# Altium schematic symbol library Standard.SchLib: 21 symbols
Pins are listed as number, name and electrical type; pins without a type are passive.

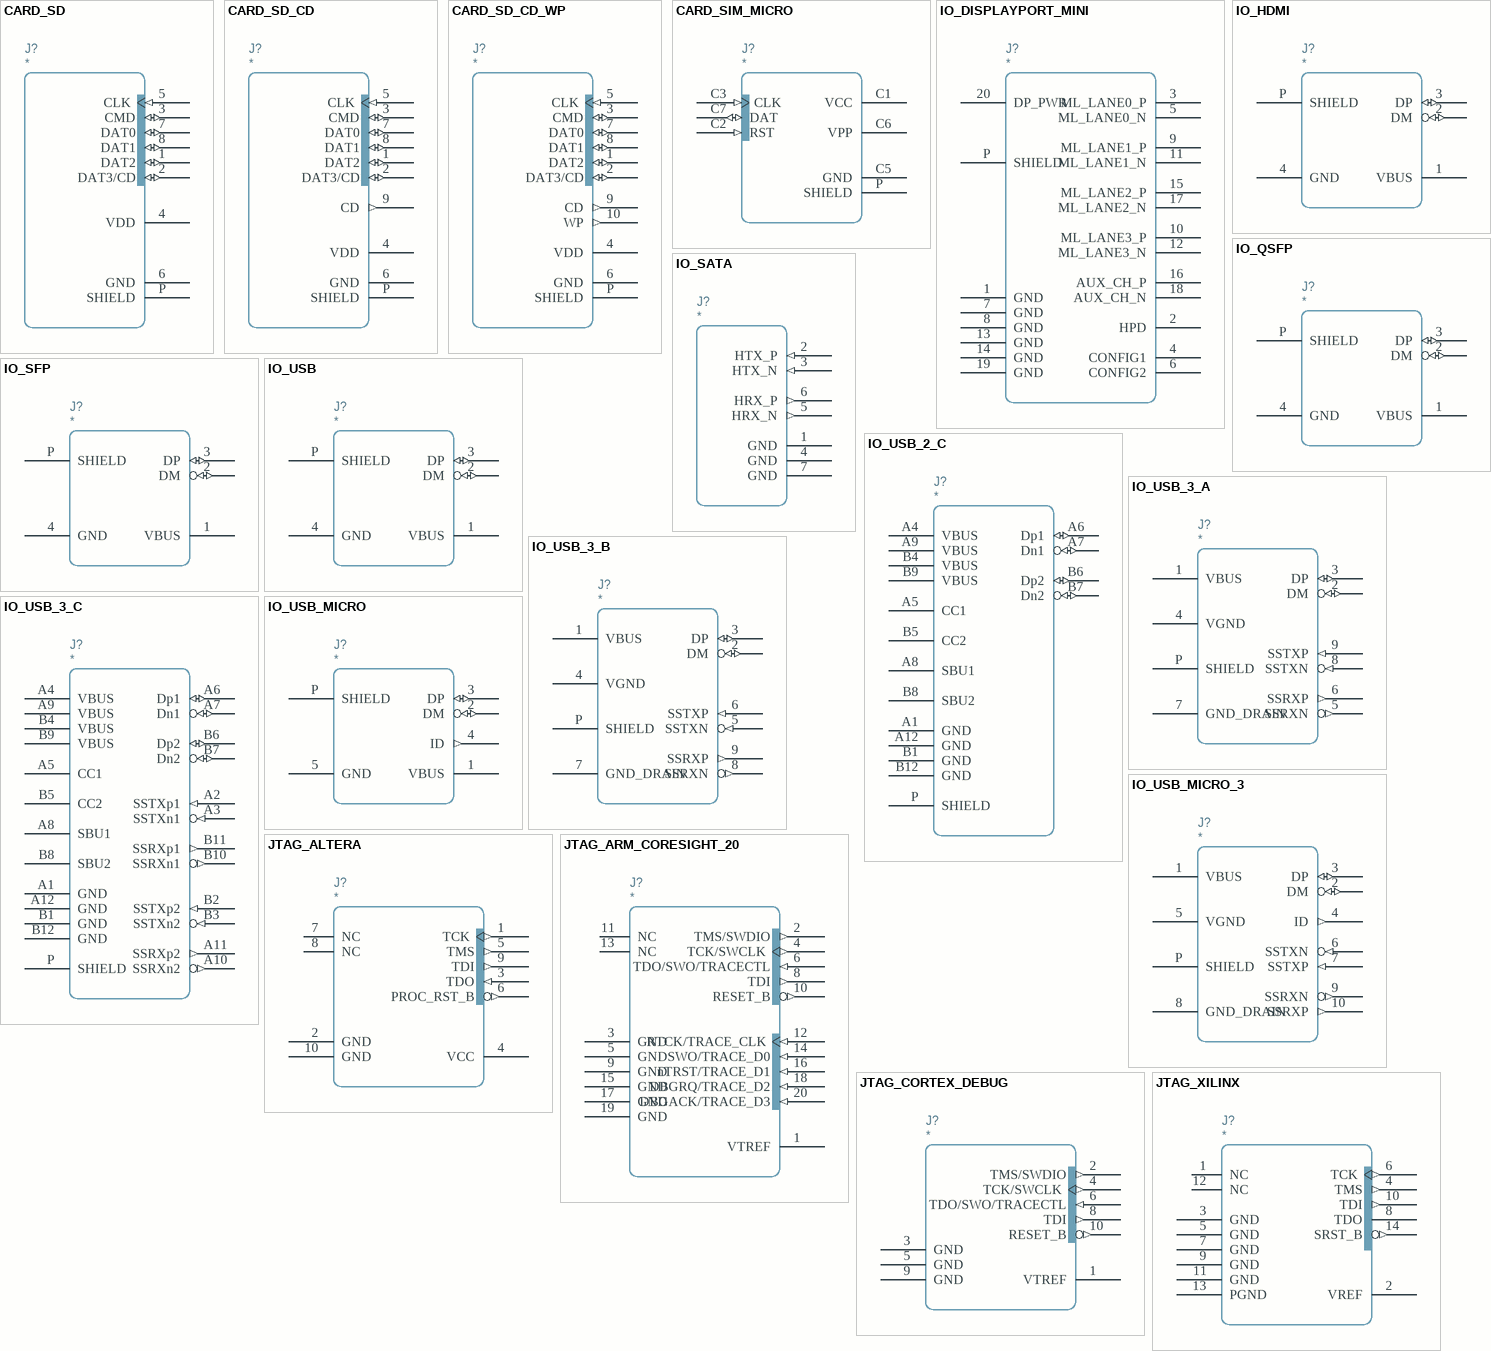
[diagram p0: symbols CARD_SD to JTAG_XILINX]

## CARD_SD
designator J?
pins: 1 DAT2 (io), 2 DAT3/CD (io), 3 CMD (io), 4 VDD, 5 CLK (in), 6 GND, 7 DAT0 (io), 8 DAT1 (io), P SHIELD

## CARD_SD_CD
designator J?
pins: 1 DAT2 (io), 2 DAT3/CD (io), 3 CMD (io), 4 VDD, 5 CLK (in), 6 GND, 7 DAT0 (io), 8 DAT1 (io), 9 CD (out), P SHIELD

## CARD_SD_CD_WP
designator J?
pins: 1 DAT2 (io), 2 DAT3/CD (io), 3 CMD (io), 4 VDD, 5 CLK (in), 6 GND, 7 DAT0 (io), 8 DAT1 (io), 9 CD (out), 10 WP (out), P SHIELD

## CARD_SIM_MICRO
designator J?
pins: C1 VCC, C2 RST (in), C3 CLK (in), C5 GND, C6 VPP, C7 DAT (io), P SHIELD

## IO_DISPLAYPORT_MINI
designator J?
pins: 1 GND, 2 HPD, 3 ML_LANE0_P, 4 CONFIG1, 5 ML_LANE0_N, 6 CONFIG2, 7 GND, 8 GND, 9 ML_LANE1_P, 10 ML_LANE3_P, 11 ML_LANE1_N, 12 ML_LANE3_N, 13 GND, 14 GND, 15 ML_LANE2_P, 16 AUX_CH_P, 17 ML_LANE2_N, 18 AUX_CH_N, 19 GND, 20 DP_PWR, P SHIELD

## IO_HDMI
designator J?
pins: 1 VBUS, 2 DM (io), 3 DP (io), 4 GND, P SHIELD

## IO_QSFP
designator J?
pins: 1 VBUS, 2 DM (io), 3 DP (io), 4 GND, P SHIELD

## IO_SATA
designator J?
pins: 1 GND, 2 HTX_P (in), 3 HTX_N (in), 4 GND, 5 HRX_N (out), 6 HRX_P (out), 7 GND

## IO_SFP
designator J?
pins: 1 VBUS, 2 DM (io), 3 DP (io), 4 GND, P SHIELD

## IO_USB
designator J?
pins: 1 VBUS, 2 DM (io), 3 DP (io), 4 GND, P SHIELD

## IO_USB_2_C
designator J?
pins: A1 GND, A4 VBUS, A5 CC1, A6 Dp1 (io), A7 Dn1 (io), A8 SBU1, A9 VBUS, A12 GND, B1 GND, B4 VBUS, B5 CC2, B6 Dp2 (io), B7 Dn2 (io), B8 SBU2, B9 VBUS, B12 GND, P SHIELD

## IO_USB_3_A
designator J?
pins: 1 VBUS, 2 DM (io), 3 DP (io), 4 VGND, 5 SSRXN (out), 6 SSRXP (out), 7 GND_DRAIN, 8 SSTXN (in), 9 SSTXP (in), P SHIELD

## IO_USB_3_B
designator J?
pins: 1 VBUS, 2 DM (io), 3 DP (io), 4 VGND, 5 SSTXN (in), 6 SSTXP (in), 7 GND_DRAIN, 8 SSRXN (out), 9 SSRXP (out), P SHIELD

## IO_USB_3_C
designator J?
pins: A1 GND, A2 SSTXp1 (in), A3 SSTXn1 (in), A4 VBUS, A5 CC1, A6 Dp1 (io), A7 Dn1 (io), A8 SBU1, A9 VBUS, A10 SSRXn2 (out), A11 SSRXp2 (out), A12 GND, B1 GND, B2 SSTXp2 (in), B3 SSTXn2 (in), B4 VBUS, B5 CC2, B6 Dp2 (io), B7 Dn2 (io), B8 SBU2, B9 VBUS, B10 SSRXn1 (out), B11 SSRXp1 (out), B12 GND, P SHIELD

## IO_USB_MICRO
designator J?
pins: 1 VBUS, 2 DM (io), 3 DP (io), 4 ID (out), 5 GND, P SHIELD

## IO_USB_MICRO_3
designator J?
pins: 1 VBUS, 2 DM (io), 3 DP (io), 4 ID (out), 5 VGND, 6 SSTXN (in), 7 SSTXP (in), 8 GND_DRAIN, 9 SSRXN (out), 10 SSRXP (out), P SHIELD

## JTAG_ALTERA
designator J?
pins: 1 TCK (out), 2 GND, 3 TDO (in), 4 VCC, 5 TMS (out), 6 PROC_RST_B (out), 7 NC, 8 NC, 9 TDI (out), 10 GND

## JTAG_ARM_CORESIGHT_20
designator J?
pins: 1 VTREF, 2 TMS/SWDIO (out), 3 GND, 4 TCK/SWCLK (out), 5 GND, 6 TDO/SWO/TRACECTL (in) "Used to indicate nonvalid trace data and triggers. https://developer.arm.com/documentation/ddi0314/h/trace-port-interface-unit/other-tpiu-design-considerations/tracectl-removal?lang=en", 8 TDI (out), 9 GND, 10 RESET_B (out), 11 NC, 12 RTCK/TRACE_CLK (in), 13 NC, 14 SWO/TRACE_D0 (in), 15 GND, 16 nTRST/TRACE_D1 (in), 17 GND, 18 DBGRQ/TRACE_D2 (in), 19 GND, 20 DBGACK/TRACE_D3 (in)

## JTAG_CORTEX_DEBUG
designator J?
pins: 1 VTREF, 2 TMS/SWDIO (out), 3 GND, 4 TCK/SWCLK (out), 5 GND, 6 TDO/SWO/TRACECTL (in) "Used to indicate nonvalid trace data and triggers. https://developer.arm.com/documentation/ddi0314/h/trace-port-interface-unit/other-tpiu-design-considerations/tracectl-removal?lang=en", 8 TDI (out), 9 GND, 10 RESET_B (out)

## JTAG_XILINX
designator J?
pins: 1 NC, 2 VREF, 3 GND, 4 TMS (out), 5 GND, 6 TCK (out), 7 GND, 8 TDO, 9 GND, 10 TDI (out), 11 GND, 12 NC, 13 PGND, 14 SRST_B (out)

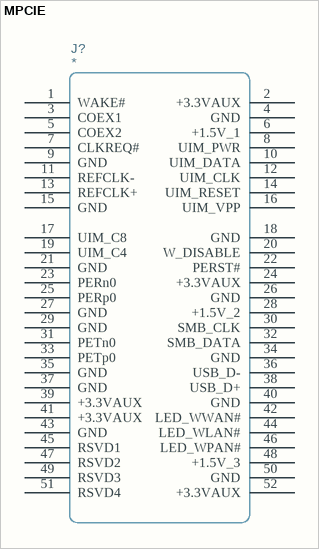
[diagram p1: symbol MPCIE]

## MPCIE
designator J?
pins: 1 WAKE#, 2 +3.3VAUX, 3 COEX1, 4 GND, 5 COEX2, 6 +1.5V_1, 7 CLKREQ#, 8 UIM_PWR, 9 GND, 10 UIM_DATA, 11 REFCLK-, 12 UIM_CLK, 13 REFCLK+, 14 UIM_RESET, 15 GND, 16 UIM_VPP, 17 UIM_C8, 18 GND, 19 UIM_C4, 20 W_DISABLE, 21 GND, 22 PERST#, 23 PERn0, 24 +3.3VAUX, 25 PERp0, 26 GND, 27 GND, 28 +1.5V_2, 29 GND, 30 SMB_CLK, 31 PETn0, 32 SMB_DATA, 33 PETp0, 34 GND, 35 GND, 36 USB_D-, 37 GND, 38 USB_D+, 39 +3.3VAUX, 40 GND, 41 +3.3VAUX, 42 LED_WWAN#, 43 GND, 44 LED_WLAN#, 45 RSVD1, 46 LED_WPAN#, 47 RSVD2, 48 +1.5V_3, 49 RSVD3, 50 GND, 51 RSVD4, 52 +3.3VAUX